# Altium footprint library Micro USB座DXP.PcbLib: 1 footprints
Each footprint in its own frame and in the unit in brackets; x right, y up, seen from the top. Pads: shape width x height; smd on the part's side, far side on the other; paste and mask are expansions set on the pad; w line width, h text height; cw(c..) or ccw(c..) is an arc to the next point about the centre after c.
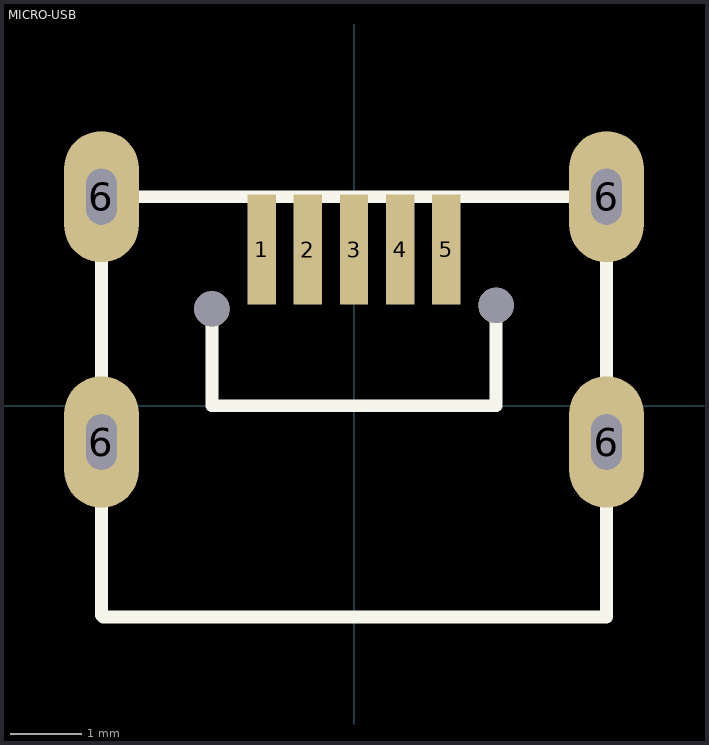
[diagram p0: the footprint, top view; thin cyan lines are the x and y axes]

## MICRO-USB [mm]
pads (11):
  rect 0.4x1.55 smd: 1(-1.3,2.2) 2(-0.65,2.2) 3(0,2.2) 4(0.65,2.2) 5(1.3,2.2)
  oval 1.054x1.849 hole 0.432 slot 0.787 at 90 deg: 6(-3.556,-0.508) 6(-3.556,2.946) 6(3.556,-0.508) 6(3.556,2.946)
  round 0.5 hole 0.5 unplated: ""(-2,1.365) ""(2,1.416)
Top Overlay:
  lines w0.178: -2,1.365 -2,0 0,0 2,0 2,1.416 ; -3.556,-2.946 -3.531,-2.972 3.556,-2.972 3.556,-0.508 3.556,2.946 0,2.946 -3.556,2.946 -3.556,-0.508 -3.556,-2.946